# Altium footprint library PcbLib.PcbLib: 3 footprints
Each footprint in its own frame and in the unit in brackets; x right, y up, seen from the top. Pads: shape width x height; smd on the part's side, far side on the other; paste and mask are expansions set on the pad; w line width, h text height; cw(c..) or ccw(c..) is an arc to the next point about the centre after c.
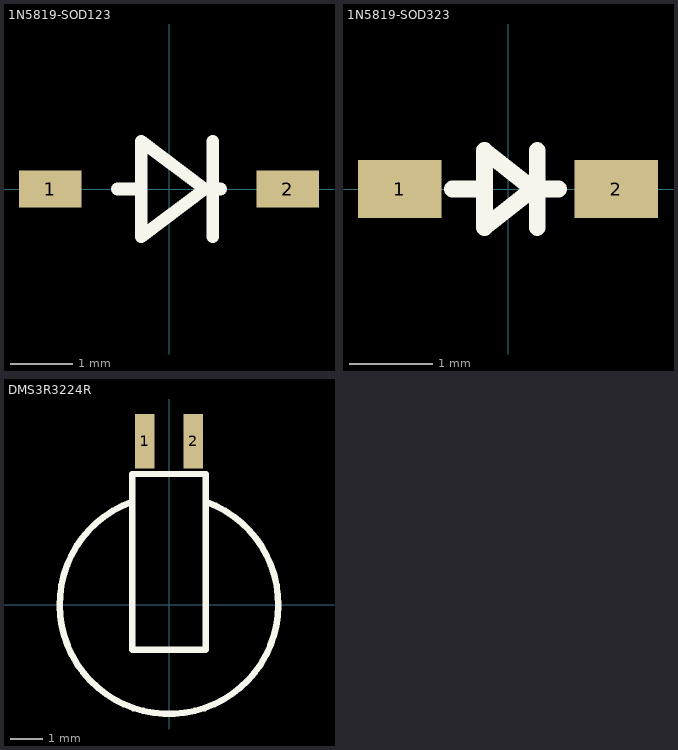
[diagram p0: the footprints below, top view; thin cyan lines are the x and y axes]

## 1N5819-SOD123 [mm]
height 1.15
pads (2):
  rect 1x0.6 smd: 1(-1.9,0) 2(1.9,0)
Top Overlay:
  lines w0.203: -0.826,0 -0.445,0 ; 0.699,-0.762 0.699,0.762 ; 0.826,0 0.572,0 ; 0.572,0 -0.445,0.762 -0.445,-0.762 0.572,0
3D body: height 1.15, standoff 0, extent -1.35,-0.825 1.35,0.825
3D body: height 0.1, standoff 0, extent -1.9,-0.275 -1.225,0.275
3D body: height 0.1, standoff 0, extent 1.225,-0.275 1.9,0.275

## 1N5819-SOD323 [mm]
height 0.85
pads (2):
  rect 1x0.7 smd: 1(-1.3,0) 2(1.3,0)
Top Overlay:
  lines w0.203: -0.665,0 -0.284,0 ; 0.351,-0.462 0.351,0.462 ; 0.351,0 0.605,0 ; -0.284,-0.462 0.3,0 -0.284,0.462 -0.284,-0.462
3D body: height 0.1, standoff 0, extent 0.8,-0.35 1.3,0.35
3D body: height 0.1, standoff 0, extent -1.3,-0.35 -0.8,0.35
3D body: height 0.85, standoff 0, extent -0.85,-0.625 0.85,0.625

## DMS3R3224R [mm]
height 1.5
pads (2):
  rect 0.6x1.7 smd: 1(-0.75,5.08) 2(0.75,5.08)
Top Overlay:
  lines w0.2: -1.163,3.195 ccw(c0,0) 1.163,3.195 ; -1.143,-1.397 1.143,-1.397 1.143,4.064 -1.143,4.064 -1.143,-1.397
3D body: height 1.6, standoff 0, extent -0.95,3.65 -0.55,3.7
3D body: height 0.1, standoff 0, extent -1.1,-1.4 1.15,3.375
3D body: height 0.1, standoff 0, extent -0.95,3.675 -0.55,5.6
3D body: height 0.1, standoff 0, extent 0.55,3.375 0.95,5.6
3D body: height 1.6, standoff 1.5, extent -1.1,-1.4 1.15,3.675
3D body: height 1.5, standoff 0.1, extent -3.274,-3.293 3.3,3.294